# EAGLE library part AT28C16-15PC (library memories)
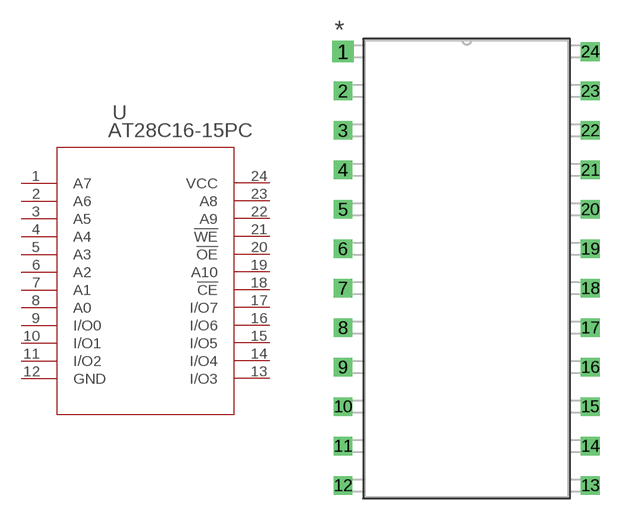
[diagram p2: symbol with the pads of PDIP24_14P4X32P3; footprint PDIP24_14P4X32P3]

Designator prefix U

## AT28C16-15PC (BUILT_BY: EMA_April; COPYRIGHT: Copyright (C) 2018 Accelerated Designs. All rights reserved; MANUFACTURER_PART_NUMBER: AT28C16-15PC; VENDOR: Microchip)  [PDIP24_14P4X32P3]
1  A7
2  A6
3  A5
4  A4
5  A3
6  A2
7  A1
8  A0
9  I/O0
10  I/O1
11  I/O2
12  GND  pas
13  I/O3
14  I/O4
15  I/O5
16  I/O6
17  I/O7
18  !CE  pas
19  A10
20  !OE  out
21  !WE  pas
22  A9
23  A8
24  VCC  pwr

## Footprint PDIP24_14P4X32P3 (pad centres in mm)
drill 0.813 pad 1.524 square: 1 -17.501,30.734
drill 0.813 pad 0.635 square: 2 -17.501,27.94; 3 -17.501,25.146; 4 -17.501,22.352; 5 -17.501,19.558; 6 -17.501,16.764; 7 -17.501,13.97; 8 -17.501,11.176; 9 -17.501,8.382; 10 -17.501,5.588; 11 -17.501,2.794; 12 -17.501,0; 13 0,0; 14 0,2.794; 15 0,5.588; 16 0,8.382; 17 0,11.176; 18 0,13.97; 19 0,16.764; 20 0,19.558; 21 0,22.352; 22 0,25.146; 23 0,27.94; 24 0,30.734